# EAGLE library part LTR-303ALS-01 (library LTR-303ALS-01)
Ambient Light Sensors Ambient Light Photo Sensor Source: Datasheet <http://optoelectronics.liteon.com/upload/download/DS86-2013-0004/LTR-303ALS-01_DS_V1.pdf>
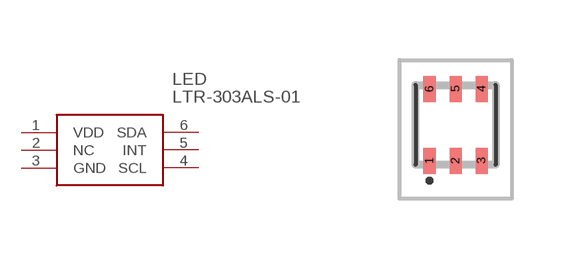
[diagram p0: symbol with the pads of LTR303ALS01; footprint LTR303ALS01]

Designator prefix LED

## LTR-303ALS-01 (Arrow_Part_Number: LTR-303ALS-01; Arrow_Price-Stock: https://www.arrow.com/en/products/ltr-303als-01/lite-on-technology?region=nac; Description: Ambient Light Sensors Ambient Light Photo Sensor; Height: 0mm; Manufacturer_Name: Lite-On; Manufacturer_Part_Number: LTR-303ALS-01; Mouser_Part_Number: 859-LTR-303ALS-01; Mouser_Price-Stock: https://www.mouser.co.uk/ProductDetail/Lite-On/LTR-303ALS-01?qs=Ml%2FaxAEbwm%252Bm%252BetMkBDC8g%3D%3D)  [LTR303ALS01]
1  VDD
2  NC  nc
3  GND
4  SCL
5  INT
6  SDA

## Footprint LTR303ALS01 (pad centres in mm)
LTR-303ALS-01
smd 0.3 x 0.65: 1 -0.65,-0.9; 2 0,-0.9; 3 0.65,-0.9; 4 0.65,0.9; 5 0,0.9; 6 -0.65,0.9